# EAGLE library part STM32F103C8T6 (library bs_usb)
STM32F103C8T6
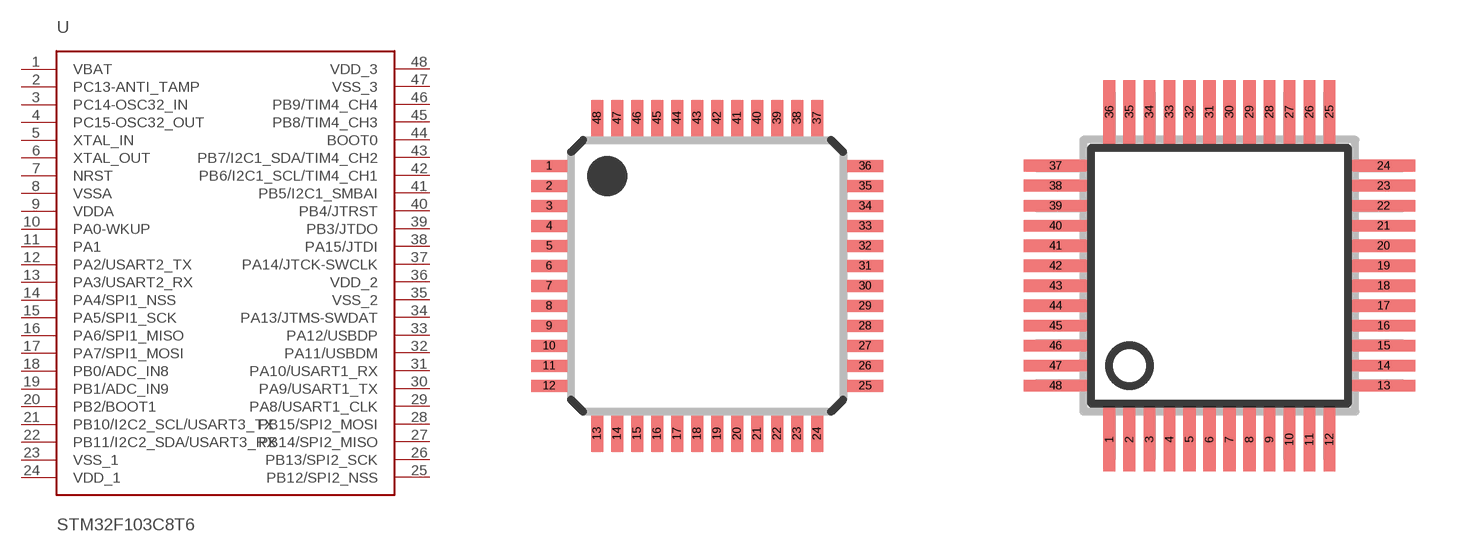
[diagram p0: symbol with the pads of LQFP48-7X7; footprints LQFP48-7X7, TQFP48_7X7]

Designator prefix U

## STM32F103C8T6  [LQFP48-7X7]
1  VBAT
2  PC13-ANTI_TAMP
3  PC14-OSC32_IN
4  PC15-OSC32_OUT
5  XTAL_IN
6  XTAL_OUT
7  NRST
8  VSSA  pwr
9  VDDA  pwr
10  PA0-WKUP
11  PA1
12  PA2/USART2_TX
13  PA3/USART2_RX
14  PA4/SPI1_NSS
15  PA5/SPI1_SCK
16  PA6/SPI1_MISO
17  PA7/SPI1_MOSI
18  PB0/ADC_IN8
19  PB1/ADC_IN9
20  PB2/BOOT1
21  PB10/I2C2_SCL/USART3_TX
22  PB11/I2C2_SDA/USART3_RX
23  VSS_1  pwr
24  VDD_1  pwr
25  PB12/SPI2_NSS
26  PB13/SPI2_SCK
27  PB14/SPI2_MISO
28  PB15/SPI2_MOSI
29  PA8/USART1_CLK
30  PA9/USART1_TX
31  PA10/USART1_RX
32  PA11/USBDM
33  PA12/USBDP
34  PA13/JTMS-SWDAT
35  VSS_2  pwr
36  VDD_2  pwr
37  PA14/JTCK-SWCLK
38  PA15/JTDI
39  PB3/JTDO
40  PB4/JTRST
41  PB5/I2C1_SMBAI
42  PB6/I2C1_SCL/TIM4_CH1
43  PB7/I2C1_SDA/TIM4_CH2
44  BOOT0
45  PB8/TIM4_CH3
46  PB9/TIM4_CH4
47  VSS_3  pwr
48  VDD_3  pwr

## STM32F103C8T6STM32F103C8T6_L  [TQFP48_7X7]
Pads as for LQFP48-7X7

## Footprint LQFP48-7X7 (pad centres in mm)
48-pin low profile quad flat package (7 x 7) Source: Data sheet <http://www.st.com/stonline/products/literature/ds/14771/stm8s105c4.pdf>
smd 0.9 x 0.3: 1 -3.95,2.75; 2 -3.95,2.25; 3 -3.95,1.75; 4 -3.95,1.25; 5 -3.95,0.75; 6 -3.95,0.25; 7 -3.95,-0.25; 8 -3.95,-0.75; 9 -3.95,-1.25; 10 -3.95,-1.75; 11 -3.95,-2.25; 12 -3.95,-2.75; 25 3.95,-2.75; 26 3.95,-2.25; 27 3.95,-1.75; 28 3.95,-1.25; 29 3.95,-0.75; 30 3.95,-0.25; 31 3.95,0.25; 32 3.95,0.75; 33 3.95,1.25; 34 3.95,1.75; 35 3.95,2.25; 36 3.95,2.75
smd 0.3 x 0.9: 13 -2.75,-3.95; 14 -2.25,-3.95; 15 -1.75,-3.95; 16 -1.25,-3.95; 17 -0.75,-3.95; 18 -0.25,-3.95; 19 0.25,-3.95; 20 0.75,-3.95; 21 1.25,-3.95; 22 1.75,-3.95; 23 2.25,-3.95; 24 2.75,-3.95; 37 2.75,3.95; 38 2.25,3.95; 39 1.75,3.95; 40 1.25,3.95; 41 0.75,3.95; 42 0.25,3.95; 43 -0.25,3.95; 44 -0.75,3.95; 45 -1.25,3.95; 46 -1.75,3.95; 47 -2.25,3.95; 48 -2.75,3.95

## Footprint TQFP48_7X7 (pad centres in mm)
Thin Quad Flat Package from SMD-IPC.lbr SQFP48 7x7
smd 0.3 x 1.6: 1 -2.75,-4.1; 2 -2.25,-4.1; 3 -1.75,-4.1; 4 -1.25,-4.1; 5 -0.75,-4.1; 6 -0.25,-4.1; 7 0.25,-4.1; 8 0.75,-4.1; 9 1.25,-4.1; 10 1.75,-4.1; 11 2.25,-4.1; 12 2.75,-4.1; 25 2.75,4.1; 26 2.25,4.1; 27 1.75,4.1; 28 1.25,4.1; 29 0.75,4.1; 30 0.25,4.1; 31 -0.25,4.1; 32 -0.75,4.1; 33 -1.25,4.1; 34 -1.75,4.1; 35 -2.25,4.1; 36 -2.75,4.1
smd 1.6 x 0.3: 13 4.1,-2.75; 14 4.1,-2.25; 15 4.1,-1.75; 16 4.1,-1.25; 17 4.1,-0.75; 18 4.1,-0.25; 19 4.1,0.25; 20 4.1,0.75; 21 4.1,1.25; 22 4.1,1.75; 23 4.1,2.25; 24 4.1,2.75; 37 -4.1,2.75; 38 -4.1,2.25; 39 -4.1,1.75; 40 -4.1,1.25; 41 -4.1,0.75; 42 -4.1,0.25; 43 -4.1,-0.25; 44 -4.1,-0.75; 45 -4.1,-1.25; 46 -4.1,-1.75; 47 -4.1,-2.25; 48 -4.1,-2.75